# EAGLE library part T13F256 (library sjg-pixl)
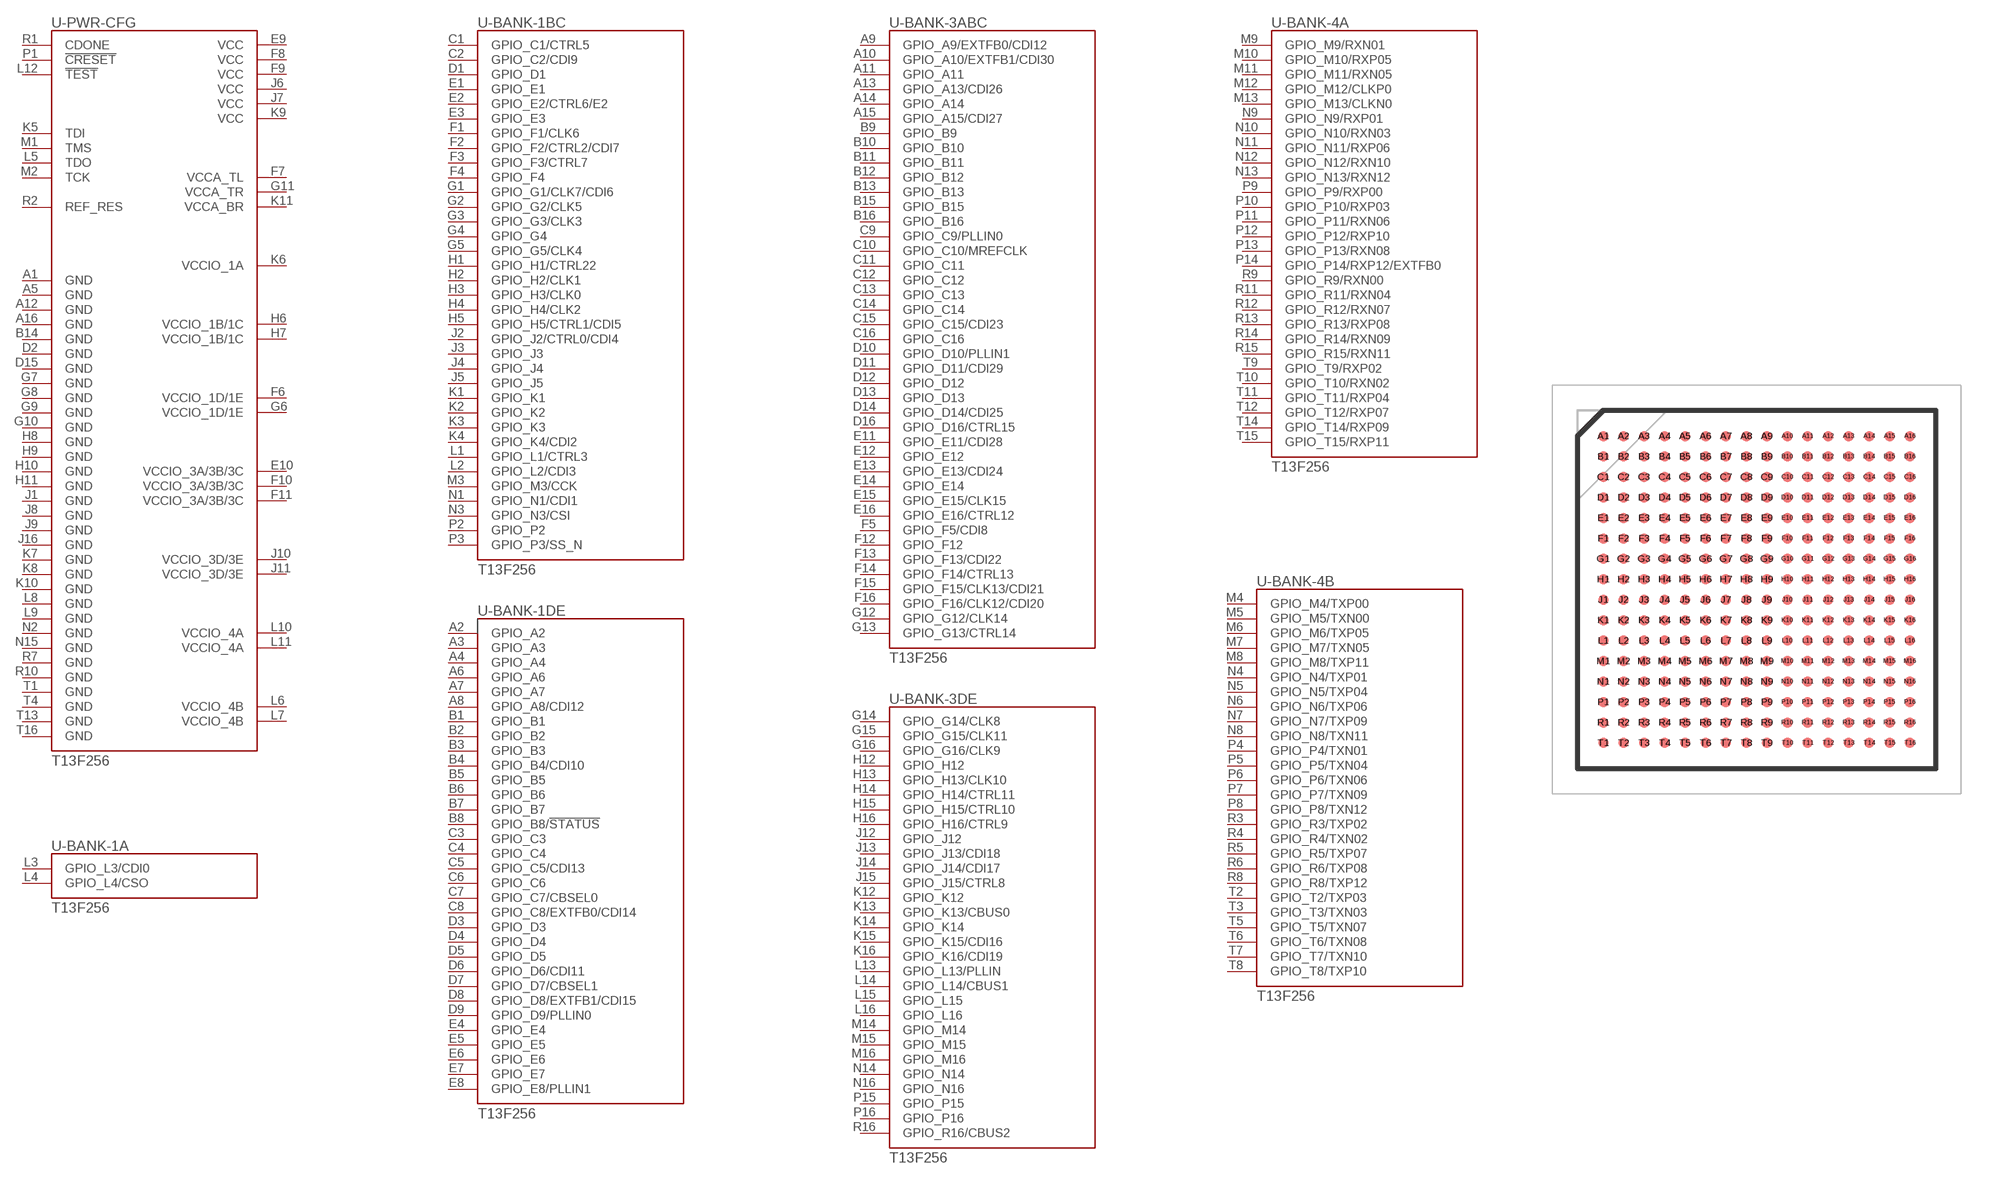
[diagram p0: symbol with the pads of BGA256_08; footprint BGA256_08]

Designator prefix -; gates -PWR-CFG=T13-POWER -BANK-1A=T13BANK-1A -BANK-1BC=T13BANK-1B-1C -BANK-1DE=T13BANK-1D-1E -BANK-3ABC=T13BANK-3A-3B-3C -BANK-3DE=T13BANK-3D-3E -BANK-4A=T13BANK-4A -BANK-4B=T13BANK-4B

## T13F256  [BGA256_08]
A1  -PWR-CFG:GND
A2  -BANK-1DE:GPIO_A2
A3  -BANK-1DE:GPIO_A3
A4  -BANK-1DE:GPIO_A4
A5  -PWR-CFG:GND
A6  -BANK-1DE:GPIO_A6
A7  -BANK-1DE:GPIO_A7
A8  -BANK-1DE:GPIO_A8/CDI12
A9  -BANK-3ABC:GPIO_A9/EXTFB0/CDI12
A10  -BANK-3ABC:GPIO_A10/EXTFB1/CDI30
A11  -BANK-3ABC:GPIO_A11
A12  -PWR-CFG:GND
A13  -BANK-3ABC:GPIO_A13/CDI26
A14  -BANK-3ABC:GPIO_A14
A15  -BANK-3ABC:GPIO_A15/CDI27
A16  -PWR-CFG:GND
B1  -BANK-1DE:GPIO_B1
B2  -BANK-1DE:GPIO_B2
B3  -BANK-1DE:GPIO_B3
B4  -BANK-1DE:GPIO_B4/CDI10
B5  -BANK-1DE:GPIO_B5
B6  -BANK-1DE:GPIO_B6
B7  -BANK-1DE:GPIO_B7
B8  -BANK-1DE:GPIO_B8/!STATUS!
B9  -BANK-3ABC:GPIO_B9
B10  -BANK-3ABC:GPIO_B10
B11  -BANK-3ABC:GPIO_B11
B12  -BANK-3ABC:GPIO_B12
B13  -BANK-3ABC:GPIO_B13
B14  -PWR-CFG:GND
B15  -BANK-3ABC:GPIO_B15
B16  -BANK-3ABC:GPIO_B16
C1  -BANK-1BC:GPIO_C1/CTRL5
C2  -BANK-1BC:GPIO_C2/CDI9
C3  -BANK-1DE:GPIO_C3
C4  -BANK-1DE:GPIO_C4
C5  -BANK-1DE:GPIO_C5/CDI13
C6  -BANK-1DE:GPIO_C6
C7  -BANK-1DE:GPIO_C7/CBSEL0
C8  -BANK-1DE:GPIO_C8/EXTFB0/CDI14
C9  -BANK-3ABC:GPIO_C9/PLLIN0
C10  -BANK-3ABC:GPIO_C10/MREFCLK
C11  -BANK-3ABC:GPIO_C11
C12  -BANK-3ABC:GPIO_C12
C13  -BANK-3ABC:GPIO_C13
C14  -BANK-3ABC:GPIO_C14
C15  -BANK-3ABC:GPIO_C15/CDI23
C16  -BANK-3ABC:GPIO_C16
D1  -BANK-1BC:GPIO_D1
D2  -PWR-CFG:GND
D3  -BANK-1DE:GPIO_D3
D4  -BANK-1DE:GPIO_D4
D5  -BANK-1DE:GPIO_D5
D6  -BANK-1DE:GPIO_D6/CDI11
D7  -BANK-1DE:GPIO_D7/CBSEL1
D8  -BANK-1DE:GPIO_D8/EXTFB1/CDI15
D9  -BANK-1DE:GPIO_D9/PLLIN0
D10  -BANK-3ABC:GPIO_D10/PLLIN1
D11  -BANK-3ABC:GPIO_D11/CDI29
D12  -BANK-3ABC:GPIO_D12
D13  -BANK-3ABC:GPIO_D13
D14  -BANK-3ABC:GPIO_D14/CDI25
D15  -PWR-CFG:GND
D16  -BANK-3ABC:GPIO_D16/CTRL15
E1  -BANK-1BC:GPIO_E1
E2  -BANK-1BC:GPIO_E2/CTRL6/E2
E3  -BANK-1BC:GPIO_E3
E4  -BANK-1DE:GPIO_E4
E5  -BANK-1DE:GPIO_E5
E6  -BANK-1DE:GPIO_E6
E7  -BANK-1DE:GPIO_E7
E8  -BANK-1DE:GPIO_E8/PLLIN1
E9  -PWR-CFG:VCC
E10  -PWR-CFG:VCCIO_3A/3B/3C
E11  -BANK-3ABC:GPIO_E11/CDI28
E12  -BANK-3ABC:GPIO_E12
E13  -BANK-3ABC:GPIO_E13/CDI24
E14  -BANK-3ABC:GPIO_E14
E15  -BANK-3ABC:GPIO_E15/CLK15
E16  -BANK-3ABC:GPIO_E16/CTRL12
F1  -BANK-1BC:GPIO_F1/CLK6
F2  -BANK-1BC:GPIO_F2/CTRL2/CDI7
F3  -BANK-1BC:GPIO_F3/CTRL7
F4  -BANK-1BC:GPIO_F4
F5  -BANK-3ABC:GPIO_F5/CDI8
F6  -PWR-CFG:VCCIO_1D/1E
F7  -PWR-CFG:VCCA_TL
F8  -PWR-CFG:VCC
F9  -PWR-CFG:VCC
F10  -PWR-CFG:VCCIO_3A/3B/3C
F11  -PWR-CFG:VCCIO_3A/3B/3C
F12  -BANK-3ABC:GPIO_F12
F13  -BANK-3ABC:GPIO_F13/CDI22
F14  -BANK-3ABC:GPIO_F14/CTRL13
F15  -BANK-3ABC:GPIO_F15/CLK13/CDI21
F16  -BANK-3ABC:GPIO_F16/CLK12/CDI20
G1  -BANK-1BC:GPIO_G1/CLK7/CDI6
G2  -BANK-1BC:GPIO_G2/CLK5
G3  -BANK-1BC:GPIO_G3/CLK3
G4  -BANK-1BC:GPIO_G4
G5  -BANK-1BC:GPIO_G5/CLK4
G6  -PWR-CFG:VCCIO_1D/1E
G7  -PWR-CFG:GND
G8  -PWR-CFG:GND
G9  -PWR-CFG:GND
G10  -PWR-CFG:GND
G11  -PWR-CFG:VCCA_TR
G12  -BANK-3ABC:GPIO_G12/CLK14
G13  -BANK-3ABC:GPIO_G13/CTRL14
G14  -BANK-3DE:GPIO_G14/CLK8
G15  -BANK-3DE:GPIO_G15/CLK11
G16  -BANK-3DE:GPIO_G16/CLK9
H1  -BANK-1BC:GPIO_H1/CTRL22
H2  -BANK-1BC:GPIO_H2/CLK1
H3  -BANK-1BC:GPIO_H3/CLK0
H4  -BANK-1BC:GPIO_H4/CLK2
H5  -BANK-1BC:GPIO_H5/CTRL1/CDI5
H6  -PWR-CFG:VCCIO_1B/1C
H7  -PWR-CFG:VCCIO_1B/1C
H8  -PWR-CFG:GND
H9  -PWR-CFG:GND
H10  -PWR-CFG:GND
H11  -PWR-CFG:GND
H12  -BANK-3DE:GPIO_H12
H13  -BANK-3DE:GPIO_H13/CLK10
H14  -BANK-3DE:GPIO_H14/CTRL11
H15  -BANK-3DE:GPIO_H15/CTRL10
H16  -BANK-3DE:GPIO_H16/CTRL9
J1  -PWR-CFG:GND
J2  -BANK-1BC:GPIO_J2/CTRL0/CDI4
J3  -BANK-1BC:GPIO_J3
J4  -BANK-1BC:GPIO_J4
J5  -BANK-1BC:GPIO_J5
J6  -PWR-CFG:VCC
J7  -PWR-CFG:VCC
J8  -PWR-CFG:GND
J9  -PWR-CFG:GND
J10  -PWR-CFG:VCCIO_3D/3E
J11  -PWR-CFG:VCCIO_3D/3E
J12  -BANK-3DE:GPIO_J12
J13  -BANK-3DE:GPIO_J13/CDI18
J14  -BANK-3DE:GPIO_J14/CDI17
J15  -BANK-3DE:GPIO_J15/CTRL8
J16  -PWR-CFG:GND
K1  -BANK-1BC:GPIO_K1
K2  -BANK-1BC:GPIO_K2
K3  -BANK-1BC:GPIO_K3
K4  -BANK-1BC:GPIO_K4/CDI2
K5  -PWR-CFG:TDI
K6  -PWR-CFG:VCCIO_1A
K7  -PWR-CFG:GND
K8  -PWR-CFG:GND
K9  -PWR-CFG:VCC
K10  -PWR-CFG:GND
K11  -PWR-CFG:VCCA_BR
K12  -BANK-3DE:GPIO_K12
K13  -BANK-3DE:GPIO_K13/CBUS0
K14  -BANK-3DE:GPIO_K14
K15  -BANK-3DE:GPIO_K15/CDI16
K16  -BANK-3DE:GPIO_K16/CDI19
L1  -BANK-1BC:GPIO_L1/CTRL3
L2  -BANK-1BC:GPIO_L2/CDI3
L3  -BANK-1A:GPIO_L3/CDI0
L4  -BANK-1A:GPIO_L4/CSO
L5  -PWR-CFG:TDO
L6  -PWR-CFG:VCCIO_4B
L7  -PWR-CFG:VCCIO_4B
L8  -PWR-CFG:GND
L9  -PWR-CFG:GND
L10  -PWR-CFG:VCCIO_4A
L11  -PWR-CFG:VCCIO_4A
L12  -PWR-CFG:!TEST!
L13  -BANK-3DE:GPIO_L13/PLLIN
L14  -BANK-3DE:GPIO_L14/CBUS1
L15  -BANK-3DE:GPIO_L15
L16  -BANK-3DE:GPIO_L16
M1  -PWR-CFG:TMS
M2  -PWR-CFG:TCK
M3  -BANK-1BC:GPIO_M3/CCK
M4  -BANK-4B:GPIO_M4/TXP00
M5  -BANK-4B:GPIO_M5/TXN00
M6  -BANK-4B:GPIO_M6/TXP05
M7  -BANK-4B:GPIO_M7/TXN05
M8  -BANK-4B:GPIO_M8/TXP11
M9  -BANK-4A:GPIO_M9/RXN01
M10  -BANK-4A:GPIO_M10/RXP05
M11  -BANK-4A:GPIO_M11/RXN05
M12  -BANK-4A:GPIO_M12/CLKP0
M13  -BANK-4A:GPIO_M13/CLKN0
M14  -BANK-3DE:GPIO_M14
M15  -BANK-3DE:GPIO_M15
M16  -BANK-3DE:GPIO_M16
N1  -BANK-1BC:GPIO_N1/CDI1
N2  -PWR-CFG:GND
N3  -BANK-1BC:GPIO_N3/CSI
N4  -BANK-4B:GPIO_N4/TXP01
N5  -BANK-4B:GPIO_N5/TXP04
N6  -BANK-4B:GPIO_N6/TXP06
N7  -BANK-4B:GPIO_N7/TXP09
N8  -BANK-4B:GPIO_N8/TXN11
N9  -BANK-4A:GPIO_N9/RXP01
N10  -BANK-4A:GPIO_N10/RXN03
N11  -BANK-4A:GPIO_N11/RXP06
N12  -BANK-4A:GPIO_N12/RXN10
N13  -BANK-4A:GPIO_N13/RXN12
N14  -BANK-3DE:GPIO_N14
N15  -PWR-CFG:GND
N16  -BANK-3DE:GPIO_N16
P1  -PWR-CFG:!CRESET!
P2  -BANK-1BC:GPIO_P2
P3  -BANK-1BC:GPIO_P3/SS_N
P4  -BANK-4B:GPIO_P4/TXN01
P5  -BANK-4B:GPIO_P5/TXN04
P6  -BANK-4B:GPIO_P6/TXN06
P7  -BANK-4B:GPIO_P7/TXN09
P8  -BANK-4B:GPIO_P8/TXN12
P9  -BANK-4A:GPIO_P9/RXP00
P10  -BANK-4A:GPIO_P10/RXP03
P11  -BANK-4A:GPIO_P11/RXN06
P12  -BANK-4A:GPIO_P12/RXP10
P13  -BANK-4A:GPIO_P13/RXN08
P14  -BANK-4A:GPIO_P14/RXP12/EXTFB0
P15  -BANK-3DE:GPIO_P15
P16  -BANK-3DE:GPIO_P16
R1  -PWR-CFG:CDONE
R2  -PWR-CFG:REF_RES
R3  -BANK-4B:GPIO_R3/TXP02
R4  -BANK-4B:GPIO_R4/TXN02
R5  -BANK-4B:GPIO_R5/TXP07
R6  -BANK-4B:GPIO_R6/TXP08
R7  -PWR-CFG:GND
R8  -BANK-4B:GPIO_R8/TXP12
R9  -BANK-4A:GPIO_R9/RXN00
R10  -PWR-CFG:GND
R11  -BANK-4A:GPIO_R11/RXN04
R12  -BANK-4A:GPIO_R12/RXN07
R13  -BANK-4A:GPIO_R13/RXP08
R14  -BANK-4A:GPIO_R14/RXN09
R15  -BANK-4A:GPIO_R15/RXN11
R16  -BANK-3DE:GPIO_R16/CBUS2
T1  -PWR-CFG:GND
T2  -BANK-4B:GPIO_T2/TXP03
T3  -BANK-4B:GPIO_T3/TXN03
T4  -PWR-CFG:GND
T5  -BANK-4B:GPIO_T5/TXN07
T6  -BANK-4B:GPIO_T6/TXN08
T7  -BANK-4B:GPIO_T7/TXN10
T8  -BANK-4B:GPIO_T8/TXP10
T9  -BANK-4A:GPIO_T9/RXP02
T10  -BANK-4A:GPIO_T10/RXN02
T11  -BANK-4A:GPIO_T11/RXP04
T12  -BANK-4A:GPIO_T12/RXP07
T13  -PWR-CFG:GND
T14  -BANK-4A:GPIO_T14/RXP09
T15  -BANK-4A:GPIO_T15/RXP11
T16  -PWR-CFG:GND

## Footprint BGA256_08 (pad centres in mm)
256-Ball caBGA
smd 0.41 x 0.41: A1 -6,6; A2 -5.2,6; A3 -4.4,6; A4 -3.6,6; A5 -2.8,6; A6 -2,6; A7 -1.2,6; A8 -0.4,6; A9 0.4,6; A10 1.2,6; A11 2,6; A12 2.8,6; A13 3.6,6; A14 4.4,6; A15 5.2,6; A16 6,6; B1 -6,5.2; B2 -5.2,5.2; B3 -4.4,5.2; B4 -3.6,5.2; B5 -2.8,5.2; B6 -2,5.2; B7 -1.2,5.2; B8 -0.4,5.2; B9 0.4,5.2; B10 1.2,5.2; B11 2,5.2; B12 2.8,5.2; B13 3.6,5.2; B14 4.4,5.2; B15 5.2,5.2; B16 6,5.2; C1 -6,4.4; C2 -5.2,4.4; C3 -4.4,4.4; C4 -3.6,4.4; C5 -2.8,4.4; C6 -2,4.4; C7 -1.2,4.4; C8 -0.4,4.4; C9 0.4,4.4; C10 1.2,4.4; C11 2,4.4; C12 2.8,4.4; C13 3.6,4.4; C14 4.4,4.4; C15 5.2,4.4; C16 6,4.4; D1 -6,3.6; D2 -5.2,3.6; D3 -4.4,3.6; D4 -3.6,3.6; D5 -2.8,3.6; D6 -2,3.6; D7 -1.2,3.6; D8 -0.4,3.6; D9 0.4,3.6; D10 1.2,3.6; D11 2,3.6; D12 2.8,3.6; D13 3.6,3.6; D14 4.4,3.6; D15 5.2,3.6; D16 6,3.6; E1 -6,2.8; E2 -5.2,2.8; E3 -4.4,2.8; E4 -3.6,2.8; E5 -2.8,2.8; E6 -2,2.8; E7 -1.2,2.8; E8 -0.4,2.8; E9 0.4,2.8; E10 1.2,2.8; E11 2,2.8; E12 2.8,2.8; E13 3.6,2.8; E14 4.4,2.8; E15 5.2,2.8; E16 6,2.8; F1 -6,2; F2 -5.2,2; F3 -4.4,2; F4 -3.6,2; F5 -2.8,2; F6 -2,2; F7 -1.2,2; F8 -0.4,2; F9 0.4,2; F10 1.2,2; F11 2,2; F12 2.8,2; F13 3.6,2; F14 4.4,2; F15 5.2,2; F16 6,2; G1 -6,1.2; G2 -5.2,1.2; G3 -4.4,1.2; G4 -3.6,1.2; G5 -2.8,1.2; G6 -2,1.2; G7 -1.2,1.2; G8 -0.4,1.2; G9 0.4,1.2; G10 1.2,1.2; G11 2,1.2; G12 2.8,1.2; G13 3.6,1.2; G14 4.4,1.2; G15 5.2,1.2; G16 6,1.2; H1 -6,0.4; H2 -5.2,0.4; H3 -4.4,0.4; H4 -3.6,0.4; H5 -2.8,0.4; H6 -2,0.4; H7 -1.2,0.4; H8 -0.4,0.4; H9 0.4,0.4; H10 1.2,0.4; H11 2,0.4; H12 2.8,0.4; H13 3.6,0.4; H14 4.4,0.4; H15 5.2,0.4; H16 6,0.4; J1 -6,-0.4; J2 -5.2,-0.4; J3 -4.4,-0.4; J4 -3.6,-0.4; J5 -2.8,-0.4; J6 -2,-0.4; J7 -1.2,-0.4; J8 -0.4,-0.4; J9 0.4,-0.4; J10 1.2,-0.4; J11 2,-0.4; J12 2.8,-0.4; J13 3.6,-0.4; J14 4.4,-0.4; J15 5.2,-0.4; J16 6,-0.4; K1 -6,-1.2; K2 -5.2,-1.2; K3 -4.4,-1.2; K4 -3.6,-1.2; K5 -2.8,-1.2; K6 -2,-1.2; K7 -1.2,-1.2; K8 -0.4,-1.2; K9 0.4,-1.2; K10 1.2,-1.2; K11 2,-1.2; K12 2.8,-1.2; K13 3.6,-1.2; K14 4.4,-1.2; K15 5.2,-1.2; K16 6,-1.2; L1 -6,-2; L2 -5.2,-2; L3 -4.4,-2; L4 -3.6,-2; L5 -2.8,-2; L6 -2,-2; L7 -1.2,-2; L8 -0.4,-2; L9 0.4,-2; L10 1.2,-2; L11 2,-2; L12 2.8,-2; L13 3.6,-2; L14 4.4,-2; L15 5.2,-2; L16 6,-2; M1 -6,-2.8; M2 -5.2,-2.8; M3 -4.4,-2.8; M4 -3.6,-2.8; M5 -2.8,-2.8; M6 -2,-2.8; M7 -1.2,-2.8; M8 -0.4,-2.8; M9 0.4,-2.8; M10 1.2,-2.8; M11 2,-2.8; M12 2.8,-2.8; M13 3.6,-2.8; M14 4.4,-2.8; M15 5.2,-2.8; M16 6,-2.8; N1 -6,-3.6; N2 -5.2,-3.6; N3 -4.4,-3.6; N4 -3.6,-3.6; N5 -2.8,-3.6; N6 -2,-3.6; N7 -1.2,-3.6; N8 -0.4,-3.6; N9 0.4,-3.6; N10 1.2,-3.6; N11 2,-3.6; N12 2.8,-3.6; N13 3.6,-3.6; N14 4.4,-3.6; N15 5.2,-3.6; N16 6,-3.6; P1 -6,-4.4; P2 -5.2,-4.4; P3 -4.4,-4.4; P4 -3.6,-4.4; P5 -2.8,-4.4; P6 -2,-4.4; P7 -1.2,-4.4; P8 -0.4,-4.4; P9 0.4,-4.4; P10 1.2,-4.4; P11 2,-4.4; P12 2.8,-4.4; P13 3.6,-4.4; P14 4.4,-4.4; P15 5.2,-4.4; P16 6,-4.4; R1 -6,-5.2; R2 -5.2,-5.2; R3 -4.4,-5.2; R4 -3.6,-5.2; R5 -2.8,-5.2; R6 -2,-5.2; R7 -1.2,-5.2; R8 -0.4,-5.2; R9 0.4,-5.2; R10 1.2,-5.2; R11 2,-5.2; R12 2.8,-5.2; R13 3.6,-5.2; R14 4.4,-5.2; R15 5.2,-5.2; R16 6,-5.2; T1 -6,-6; T2 -5.2,-6; T3 -4.4,-6; T4 -3.6,-6; T5 -2.8,-6; T6 -2,-6; T7 -1.2,-6; T8 -0.4,-6; T9 0.4,-6; T10 1.2,-6; T11 2,-6; T12 2.8,-6; T13 3.6,-6; T14 4.4,-6; T15 5.2,-6; T16 6,-6